# Altium schematic symbol library MOLEX_53398.Schlib: 7 symbols
Pins are listed as number, name and electrical type; pins without a type are passive.

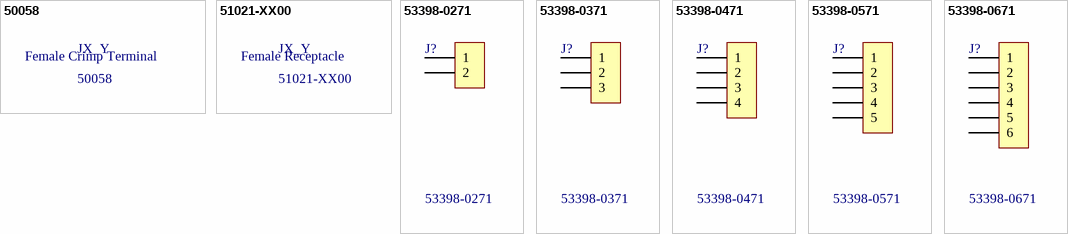
[diagram p0: symbols 50058 to 53398-0671]

## 50058
designator JX_Y  (mechanical)
text: Female Crimp Terminal

## 51021-XX00
designator JX_Y  (mechanical)
text: Female Receptacle

## 53398-0271
designator J?
pins: 1, 2

## 53398-0371
designator J?
pins: 1, 2, 3

## 53398-0471
designator J?
pins: 1, 2, 3, 4

## 53398-0571
designator J?
pins: 1, 2, 3, 4, 5

## 53398-0671
designator J?
pins: 1, 2, 3, 4, 5, 6